# Altium footprint library CON_Samtec_2Pin.PcbLib: 1 footprints
Each footprint in its own frame and in the unit in brackets; x right, y up, seen from the top. Pads: shape width x height; smd on the part's side, far side on the other; paste and mask are expansions set on the pad; w line width, h text height; cw(c..) or ccw(c..) is an arc to the next point about the centre after c.
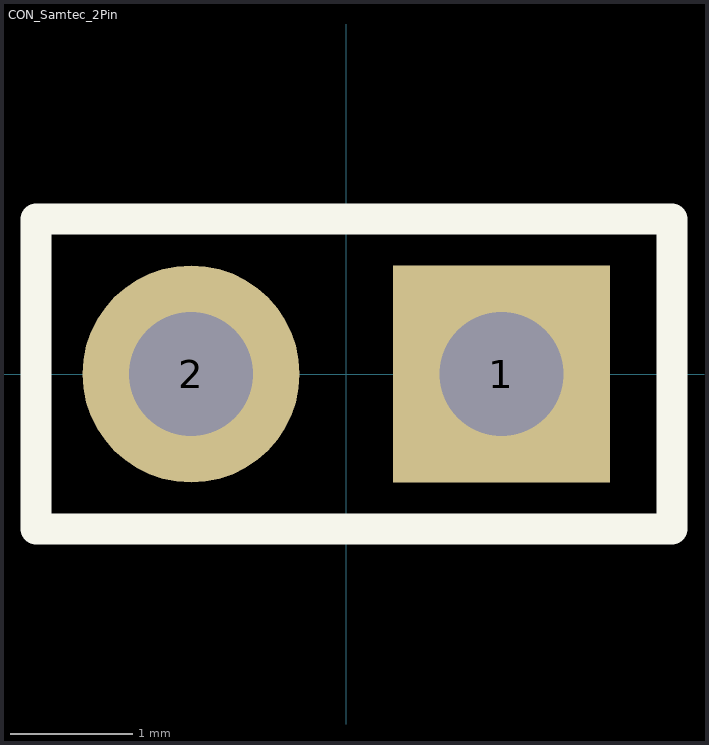
[diagram p0: the footprint, top view; thin cyan lines are the x and y axes]

## CON_Samtec_2Pin [mil] "Connector"
pads (2):
  rect 70x70 hole 40: 1(50,0)
  round 70 hole 40: 2(-50,0)
Top Overlay:
  lines w10: -100,-50 105,-50 105,50 -100,50 -100,-50
3D body: height 340, standoff -90, extent -100,-50 100,50